# EAGLE library part LM317LM (library stabilizatory)
VOLTAGE REGULATOR
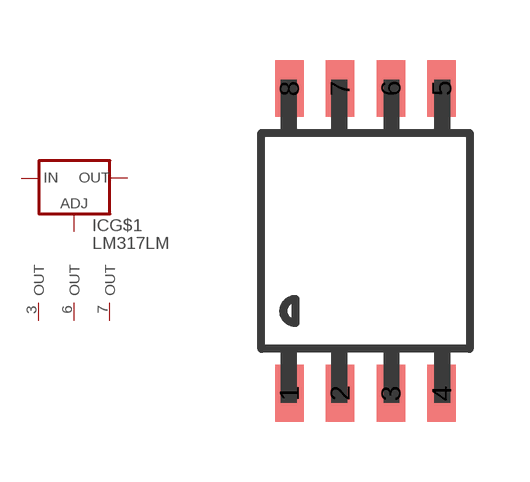
[diagram p22: symbol with the pads of SO8; footprint SO8]

Designator prefix IC; gates G$1=78ADJ G$2=OUT G$3=OUT G$4=OUT

## LM317LM  [SO8]
1  G$1:IN  in
2  G$1:OUT  pas
3  G$2:OUT  in
4  G$1:ADJ  in
6  G$3:OUT  in
7  G$4:OUT  in

## Footprint SO8 (pad centres in mm)
SO8 Package
smd 0.711 x 1.422: 1 -1.905,-3.81; 2 -0.635,-3.81; 3 0.635,-3.81; 4 1.905,-3.81; 5 1.905,3.81; 6 0.635,3.81; 7 -0.635,3.81; 8 -1.905,3.81